# Altium footprint library INDC0603X28N.PcbLib: 1 footprints
Each footprint in its own frame and in the unit in brackets; x right, y up, seen from the top. Pads: shape width x height; smd on the part's side, far side on the other; paste and mask are expansions set on the pad; w line width, h text height; cw(c..) or ccw(c..) is an arc to the next point about the centre after c.
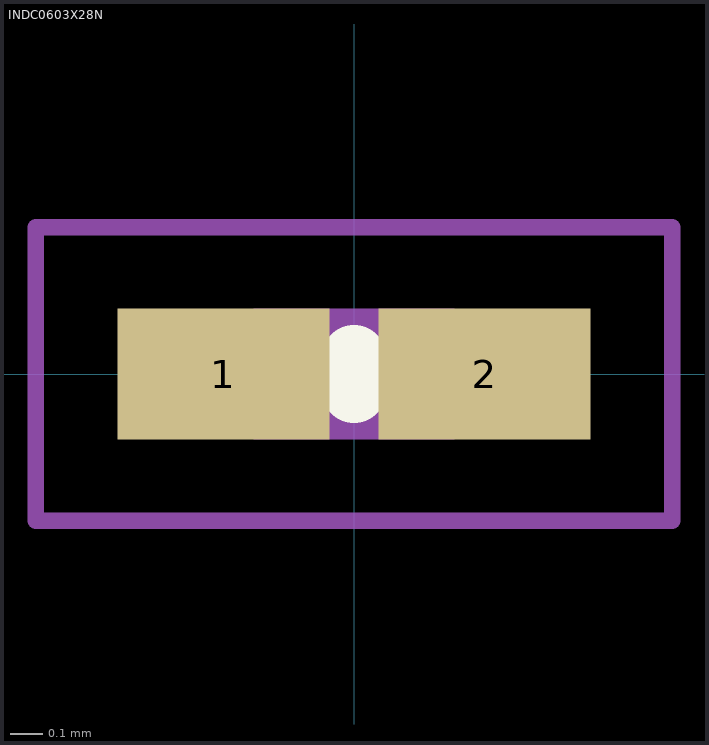
[diagram p0: the footprint, top view; thin cyan lines are the x and y axes]

## INDC0603X28N [mm]
pads (2):
  rect 0.65x0.4 smd: 1(-0.4,0) 2(0.4,0)
Top Overlay:
  lines w0.2: 0,-0.05 0,0.05
Mechanical 15:
  lines w0.1: -0.3,-0.15 0.3,-0.15 0.3,0.15 -0.3,0.15 -0.3,-0.15
Mechanical 20:
  lines w0.05: -0.975,-0.45 0.975,-0.45 0.975,0.45 -0.975,0.45 -0.975,-0.45